# EAGLE library part PP140-80CBS3.50X4.50 (library NewSDR)
Leader Tech 3.50" x 4.50" Shield
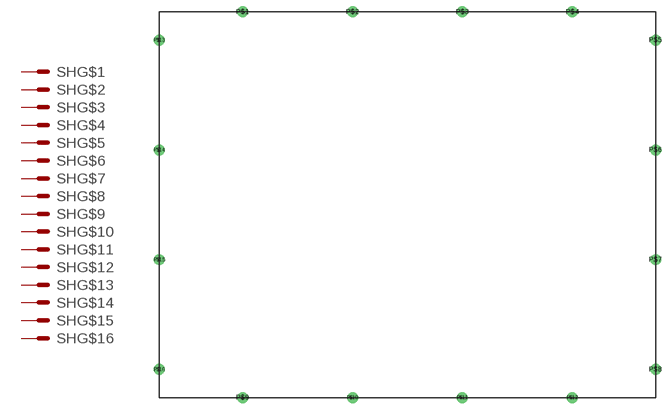
[diagram p101: symbol with the pads of PP140-80CBS3.50X4.50; footprint PP140-80CBS3.50X4.50]

Designator prefix SH; gates G$1=MS G$2=MS G$3=MS G$4=MS G$5=MS G$6=MS G$7=MS G$8=MS G$9=MS G$10=MS G$11=MS G$12=MS G$13=MS G$14=MS G$15=MS G$16=MS

## PP140-80CBS3.50X4.50  [PP140-80CBS3.50X4.50]
P$1  G$1:MS  pas
P$2  G$2:MS  pas
P$3  G$3:MS  pas
P$4  G$4:MS  pas
P$5  G$5:MS  pas
P$6  G$6:MS  pas
P$7  G$7:MS  pas
P$8  G$8:MS  pas
P$9  G$9:MS  pas
P$10  G$10:MS  pas
P$11  G$11:MS  pas
P$12  G$12:MS  pas
P$13  G$13:MS  pas
P$14  G$14:MS  pas
P$15  G$15:MS  pas
P$16  G$16:MS  pas

## Footprint PP140-80CBS3.50X4.50 (pad centres in mm)
Leader Tech 3.50" x 4.50" x 0.40" Shield
drill 1.27 pad 2.54: P$1 19.202,0; P$2 44.602,0; P$3 70.002,0; P$4 95.402,0; P$5 114.605,-6.502; P$6 114.605,-31.902; P$7 114.605,-57.302; P$8 114.605,-82.702; P$9 19.202,-89.205; P$10 44.602,-89.205; P$11 70.002,-89.205; P$12 95.402,-89.205; P$13 0,-6.502; P$14 0,-31.902; P$15 0,-57.302; P$16 0,-82.702